# Altium footprint library Molex_Connectors.PcbLib: 5 footprints
Each footprint in its own frame and in the unit in brackets; x right, y up, seen from the top. Pads: shape width x height; smd on the part's side, far side on the other; paste and mask are expansions set on the pad; w line width, h text height; cw(c..) or ccw(c..) is an arc to the next point about the centre after c.
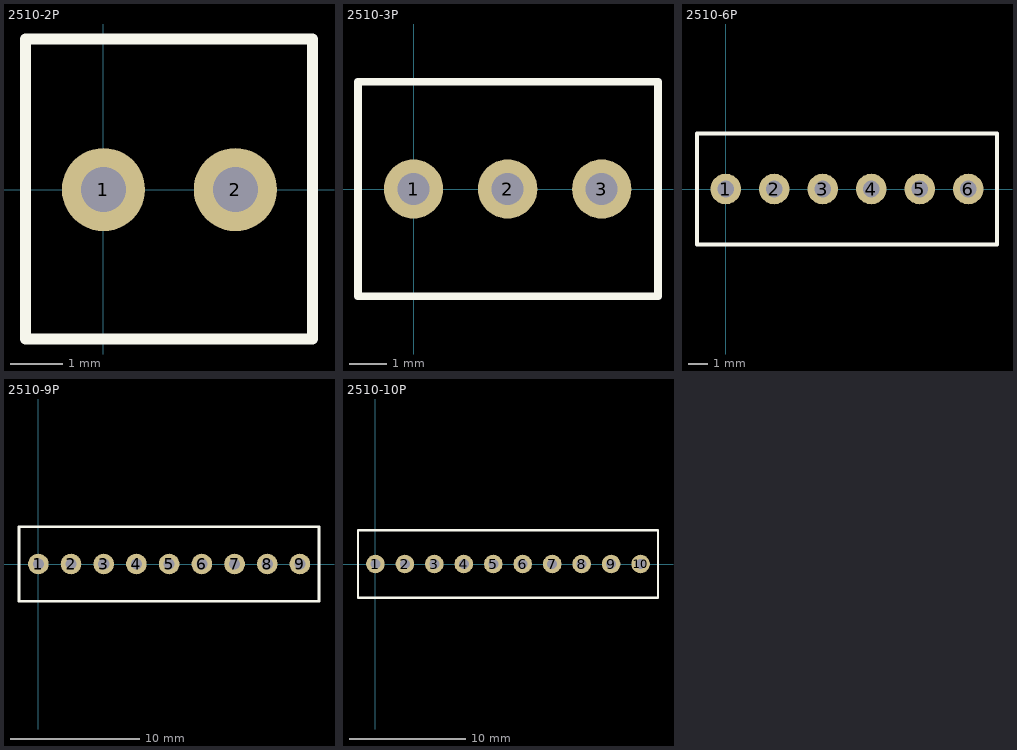
[diagram p0: the footprints below, top view; thin cyan lines are the x and y axes]

## 2510-2P [mil]
pads (2):
  round 63 / inner round 60 / far side round 63 hole 34: 1(0,0) 2(100,0)
Top Overlay:
  lines w8: -59.06,-113.19 158.46,-113.19 158.46,114.17 -59.06,114.17 -59.06,-113.19
3D body: height 452.76, standoff -125.99, extent -62.99,-118.11 163.39,118.11

## 2510-3P [mil]
pads (3):
  round 63 / inner round 60 / far side round 63 hole 34: 1(0,0) 2(100,0) 3(200,0)
Top Overlay:
  lines w8: -59.06,-114.17 259.84,-114.17 259.84,114.17 -59.06,114.17 -59.06,-114.17
3D body: height 452.76, standoff -125.99, extent -62.8,-118.11 263.58,118.11

## 2510-6P [mil]
pads (6):
  round 63 / inner round 60 / far side round 63 hole 34: 1(0,0) 2(100,0) 3(200,0) 4(300,0) 5(400,0) 6(500,0)
Top Overlay:
  lines w8: -59.06,-114.17 559.06,-114.17 559.06,114.17 -59.06,114.17 -59.06,-114.17
3D body: height 452.76, standoff -125.99, extent -46.65,-118.11 546.26,118.11

## 2510-9P [mil]
pads (9):
  round 63 / inner round 60 / far side round 63 hole 34: 1(0,0) 2(100,0) 3(200,0) 4(300,0) 5(400,0) 6(500,0) 7(600,0) 8(700,0) 9(800,0)
Top Overlay:
  lines w8: -59.06,-114.17 858.27,-114.17 858.27,114.17 -59.06,114.17 -59.06,-114.17
3D body: height 452.76, standoff -125.99, extent -46.26,-118.11 745.87,118.11

## 2510-10P [mil]
pads (10):
  round 63 / inner round 60 / far side round 63 hole 34: 1(0,0) 2(100,0) 3(200,0) 4(300,0) 5(400,0) 6(500,0) 7(600,0) 8(700,0) 9(800,0) 10(900,0)
Top Overlay:
  lines w8: -59.06,-114.17 959.06,-114.17 959.06,114.17 -59.06,114.17 -59.06,-114.17
3D body: height 452.76, standoff -125.99, extent -46.06,-118.11 946.85,118.11